# Altium schematic symbol library TR_FETP_ZXMP10A17.SchLib: 1 symbol
Pins are listed as number, name and electrical type; pins without a type are passive.

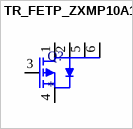
[diagram p0: symbol TR_FETP_ZXMP10A17]

## TR_FETP_ZXMP10A17
designator Q?
pins: 1 G, 2 S, 3 D, 4, 5, 6